# EAGLE library part FT232R-SSOP-28 (library FTDI FT232R)
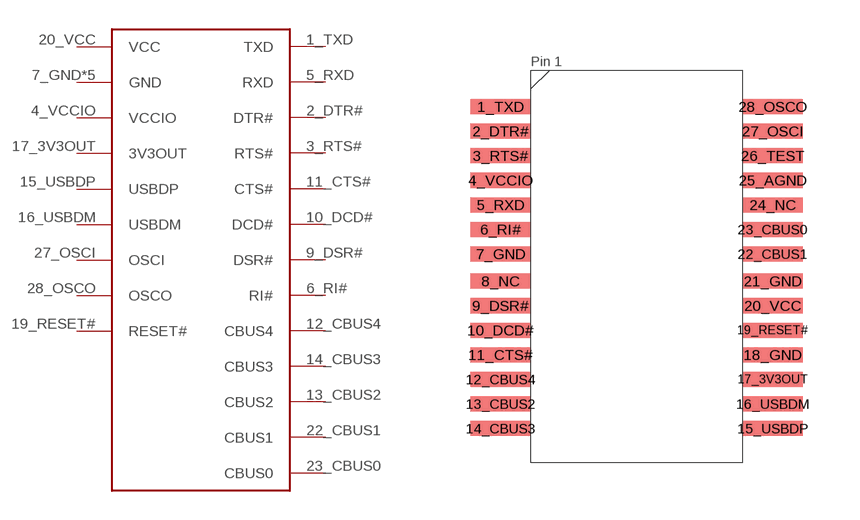
[diagram p1: symbol with the pads of SSOP-28; footprint SSOP-28]

Designator prefix -

## FT232R-SSOP-28  [SSOP-28]
1_TXD  TXD
2_DTR#  DTR#
3_RTS#  RTS#
4_VCCIO  VCCIO
5_RXD  RXD
6_RI#  RI#
7_GND  GND
9_DSR#  DSR#
10_DCD#  DCD#
11_CTS#  CTS#
12_CBUS4  CBUS4
13_CBUS2  CBUS2
14_CBUS3  CBUS3
15_USBDP  USBDP
16_USBDM  USBDM
17_3V3OUT  3V3OUT
18_GND  GND
19_RESET#  RESET#
20_VCC  VCC
21_GND  GND
22_CBUS1  CBUS1
23_CBUS0  CBUS0
25_AGND  GND
26_TEST  GND
27_OSCI  OSCI
28_OSCO  OSCO

## Footprint SSOP-28 (pad centres in mm)
smd 1.6 x 0.4: 1_TXD -3.6,4.23; 2_DTR# -3.6,3.58; 3_RTS# -3.6,2.93; 4_VCCIO -3.6,2.28; 5_RXD -3.6,1.63; 6_RI# -3.6,0.98; 7_GND -3.6,0.33; 8_NC -3.6,-0.39; 9_DSR# -3.6,-1.04; 10_DCD# -3.6,-1.69; 11_CTS# -3.6,-2.34; 12_CBUS4 -3.6,-2.99; 13_CBUS2 -3.6,-3.64; 14_CBUS3 -3.6,-4.29; 15_USBDP 3.6,-4.29; 16_USBDM 3.6,-3.64; 17_3V3OUT 3.6,-2.99; 18_GND 3.6,-2.34; 19_RESET# 3.6,-1.69; 20_VCC 3.6,-1.04; 21_GND 3.6,-0.39; 22_CBUS1 3.6,0.33; 23_CBUS0 3.6,0.98; 24_NC 3.6,1.63; 25_AGND 3.6,2.28; 26_TEST 3.6,2.93; 27_OSCI 3.6,3.58; 28_OSCO 3.6,4.23